# EAGLE library part 61001618221 (library Wuerth_Elektronik_eiCan_Pin_&_Socked_Headers_v1.3)
WR-PHD 2.54mm SMT Pin Header, 16 Pins
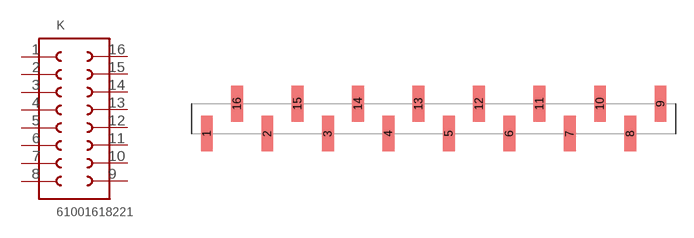
[diagram p79: symbol with the pads of 61001618221; footprint 61001618221]

Designator prefix K

## 61001618221  [61001618221]
1  1  pas
2  2  pas
3  3  pas
4  4  pas
5  5  pas
6  6  pas
7  7  pas
8  8  pas
9  9  pas
10  10  pas
11  11  pas
12  12  pas
13  13  pas
14  14  pas
15  15  pas
16  16  pas

## Footprint 61001618221 (pad centres in mm)
WR-PHD 2.54mm SMT Pin Header, 16 Pins
smd 1 x 3: 1 -17.78,0.02; 2 -12.7,0.02; 3 -7.62,0.02; 4 -2.54,0.02; 5 2.54,0.02; 6 7.62,0.02; 7 12.7,0.02; 8 17.78,0.02; 9 20.32,2.52; 10 15.24,2.52; 11 10.16,2.52; 12 5.08,2.52; 13 0,2.52; 14 -5.08,2.52; 15 -10.16,2.52; 16 -15.24,2.52